# EAGLE library part EBC20DRAS (library TMS99)
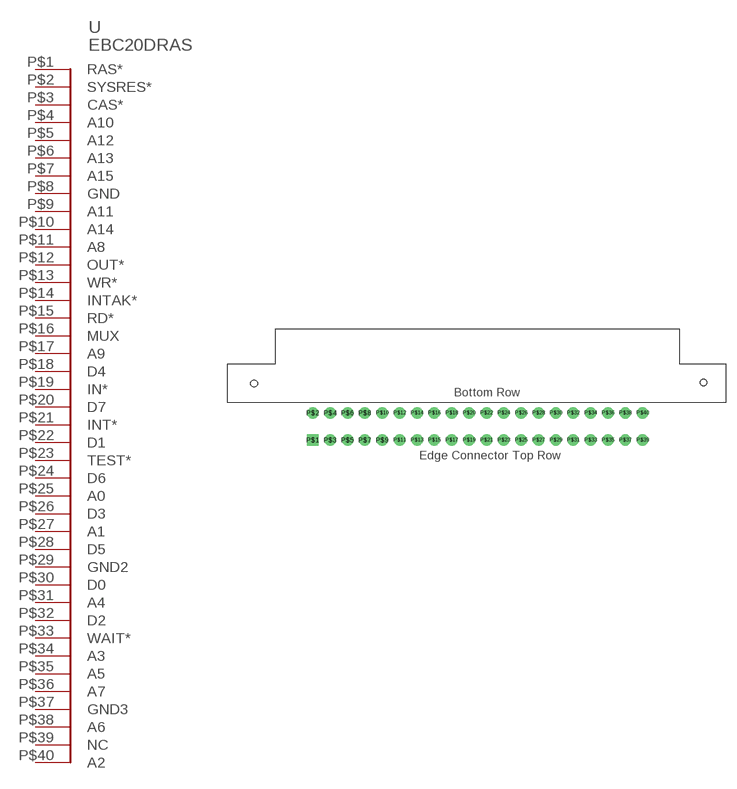
[diagram p7: symbol with the pads of EBC20DRAS; footprint EBC20DRAS]

Designator prefix -

## EBC20DRAS  [EBC20DRAS]
P$1  RAS*
P$2  SYSRES*
P$3  CAS*
P$4  A10
P$5  A12
P$6  A13
P$7  A15
P$8  GND
P$9  A11
P$10  A14
P$11  A8
P$12  OUT*
P$13  WR*
P$14  INTAK*
P$15  RD*
P$16  MUX
P$17  A9
P$18  D4
P$19  IN*
P$20  D7
P$21  INT*
P$22  D1
P$23  TEST*
P$24  D6
P$25  A0
P$26  D3
P$27  A1
P$28  D5
P$29  GND2
P$30  D0
P$31  A4
P$32  D2
P$33  WAIT*
P$34  A3
P$35  A5
P$36  A7
P$37  GND3
P$38  A6
P$39  NC
P$40  A2

## Footprint EBC20DRAS (pad centres in mm)
2x20 Edge Connector - Right Angle
drill 1 pad 1.676 square: P$1 0,0
drill 1 pad 1.676: P$2 0,3.969; P$3 2.54,0; P$4 2.54,3.969; P$5 5.08,0; P$6 5.08,3.969; P$7 7.62,0; P$8 7.62,3.969; P$9 10.16,0; P$10 10.16,3.969; P$11 12.7,0; P$12 12.7,3.969; P$13 15.24,0; P$14 15.24,3.969; P$15 17.78,0; P$16 17.78,3.969; P$17 20.32,0; P$18 20.32,3.969; P$19 22.86,0; P$20 22.86,3.969; P$21 25.4,0; P$22 25.4,3.969; P$23 27.94,0; P$24 27.94,3.969; P$25 30.48,0; P$26 30.48,3.969; P$27 33.02,0; P$28 33.02,3.969; P$29 35.56,0; P$30 35.56,3.969; P$31 38.1,0; P$32 38.1,3.969; P$33 40.64,0; P$34 40.64,3.969; P$35 43.18,0; P$36 43.18,3.969; P$37 45.72,0; P$38 45.72,3.969; P$39 48.26,0; P$40 48.26,3.969
hole 1 at -8.572,8.255
hole 1 at 57.15,8.414